# Altium schematic symbol library K78xxT-1000R3.SchLib: 1 symbol
Pins are listed as number, name and electrical type; pins without a type are passive.

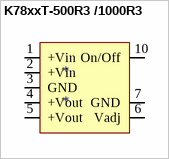
[diagram p0: symbol K78xxT-500R3 /1000R3]

## K78xxT-500R3 /1000R3
designator *
footprint K78xxT-1000R3
pins: 1 +Vin, 2 +Vin, 3 GND, 4 +Vout, 5 +Vout, 6 Vadj, 7 GND, 10 On/Off